# EAGLE library part S-DSP (library snes_mb)
Sony Sound Chip
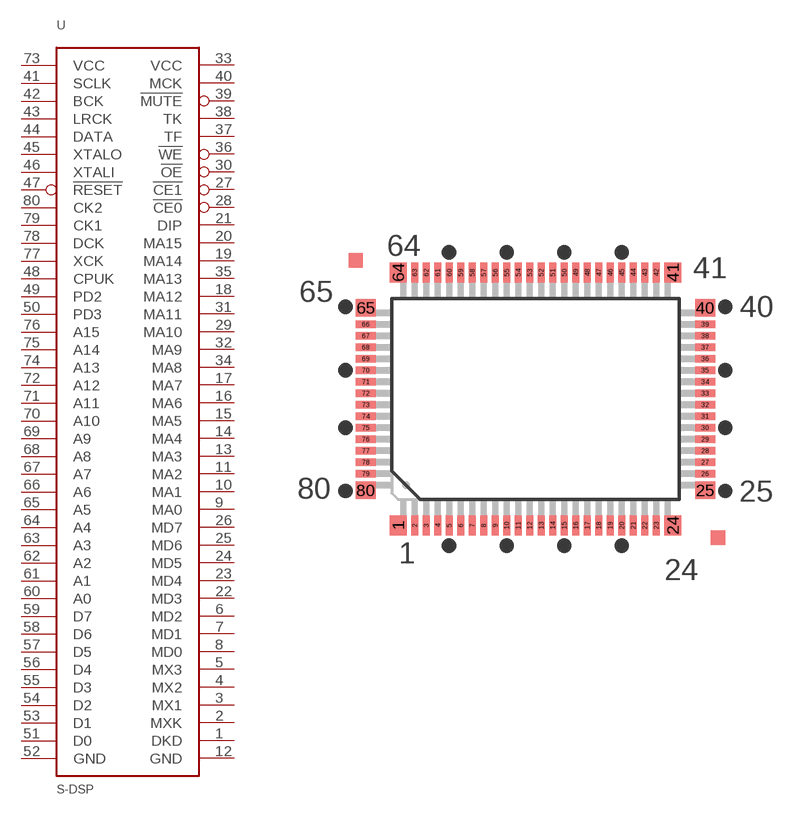
[diagram p5: symbol with the pads of 80QFP0.8; footprint 80QFP0.8]

Designator prefix U

## S-DSP  [80QFP0.8]
1  DKD
2  MXK
3  MX1
4  MX2
5  MX3
6  MD2
7  MD1
8  MD0
9  MA0
10  MA1
11  MA2
12  GND  pwr
13  MA3
14  MA4
15  MA5
16  MA6
17  MA7
18  MA12
19  MA14
20  MA15
21  DIP
22  MD3
23  MD4
24  MD5
25  MD6
26  MD7
27  !CE1
28  !CE0
29  MA10
30  !OE
31  MA11
32  MA9
33  VCC  pwr
34  MA8
35  MA13
36  !WE
37  TF
38  TK
39  !MUTE
40  MCK
41  SCLK
42  BCK
43  LRCK
44  DATA
45  XTALO
46  XTALI
47  !RESET
48  CPUK
49  PD2
50  PD3
51  D0
52  GND  pwr
53  D1
54  D2
55  D3
56  D4
57  D5
58  D6
59  D7
60  A0
61  A1
62  A2
63  A3
64  A4
65  A5
66  A6
67  A7
68  A8
69  A9
70  A10
71  A11
72  A12
73  VCC  pwr
74  A13
75  A14
76  A15
77  XCK
78  DCK
79  CK1
80  CK2

## Footprint 80QFP0.8 (pad centres in mm)
smd 1.2 x 1.4: 1 -9.55,-8.8; 24 9.55,-8.8; 41 9.55,8.8; 64 -9.55,8.8
smd 0.5 x 1.4: 2 -8.4,-8.8; 3 -7.6,-8.8; 4 -6.8,-8.8; 5 -6,-8.8; 6 -5.2,-8.8; 7 -4.4,-8.8; 8 -3.6,-8.8; 9 -2.8,-8.8; 10 -2,-8.8; 11 -1.2,-8.8; 12 -0.4,-8.8; 13 0.4,-8.8; 14 1.2,-8.8; 15 2,-8.8; 16 2.8,-8.8; 17 3.6,-8.8; 18 4.4,-8.8; 19 5.2,-8.8; 20 6,-8.8; 21 6.8,-8.8; 22 7.6,-8.8; 23 8.4,-8.8; 42 8.4,8.8; 43 7.6,8.8; 44 6.8,8.8; 45 6,8.8; 46 5.2,8.8; 47 4.4,8.8; 48 3.6,8.8; 49 2.8,8.8; 50 2,8.8; 51 1.2,8.8; 52 0.4,8.8; 53 -0.4,8.8; 54 -1.2,8.8; 55 -2,8.8; 56 -2.8,8.8; 57 -3.6,8.8; 58 -4.4,8.8; 59 -5.2,8.8; 60 -6,8.8; 61 -6.8,8.8; 62 -7.6,8.8; 63 -8.4,8.8
smd 1.4 x 1.2: 25 11.8,-6.35; 40 11.8,6.35; 65 -11.8,6.35; 80 -11.8,-6.35
smd 1.4 x 0.5: 26 11.8,-5.2; 27 11.8,-4.4; 28 11.8,-3.6; 29 11.8,-2.8; 30 11.8,-2; 31 11.8,-1.2; 32 11.8,-0.4; 33 11.8,0.4; 34 11.8,1.2; 35 11.8,2; 36 11.8,2.8; 37 11.8,3.6; 38 11.8,4.4; 39 11.8,5.2; 66 -11.8,5.2; 67 -11.8,4.4; 68 -11.8,3.6; 69 -11.8,2.8; 70 -11.8,2; 71 -11.8,1.2; 72 -11.8,0.4; 73 -11.8,-0.4; 74 -11.8,-1.2; 75 -11.8,-2; 76 -11.8,-2.8; 77 -11.8,-3.6; 78 -11.8,-4.4; 79 -11.8,-5.2